# Altium footprint library ss8050.PcbLib: 1 footprints
Each footprint in its own frame and in the unit in brackets; x right, y up, seen from the top. Pads: shape width x height; smd on the part's side, far side on the other; paste and mask are expansions set on the pad; w line width, h text height; cw(c..) or ccw(c..) is an arc to the next point about the centre after c.
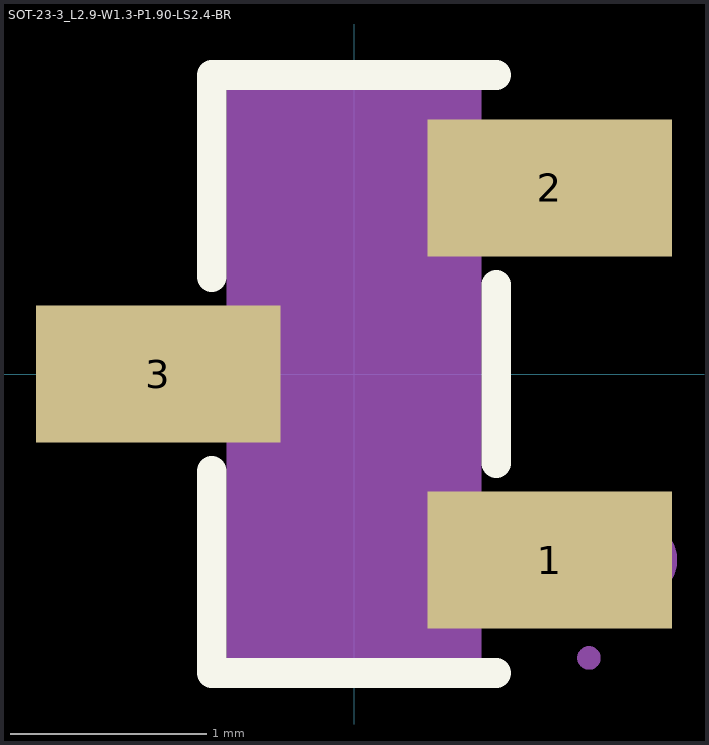
[diagram p0: the footprint, top view; thin cyan lines are the x and y axes]

## SOT-23-3_L2.9-W1.3-P1.90-LS2.4-BR [mm]
pads (3):
  rect 1.25x0.7 smd: 1(1,-0.95) 2(1,0.95) 3(-1,0)
Top Overlay:
  lines w0.152: -0.726,-0.495 -0.726,-1.526 0.726,-1.526 ; -0.726,0.495 -0.726,1.526 0.726,1.526 ; 0.726,-0.455 0.726,0.455
Mechanical 4:
  region: -0.65,-1.45 -0.65,1.45 0.65,1.45 0.65,-1.45
Mechanical 5:
  pour cut-out: -0.69,-0.21 -0.69,0.21 -0.64,0.21 -0.64,-0.21
  region: -1.2,-0.21 -1.2,0.21 -0.68,0.21 -0.68,-0.21
  pour cut-out: 0.64,0.74 0.64,1.16 0.69,1.16 0.69,0.74
  region: 0.68,0.74 0.68,1.16 1.2,1.16 1.2,0.74
  pour cut-out: 0.64,-1.16 0.64,-0.74 0.69,-0.74 0.69,-1.16
  region: 0.68,-1.16 0.68,-0.74 1.2,-0.74 1.2,-1.16
Mechanical 6:
  circle w0.06: c1.2,-1.45 r0.03
Mechanical 15:
  circle w0.2: c1.45,-0.95 r0.1